# Altium footprint library IDC-16MR (DS1013-16R).PcbLib: 1 footprints
Each footprint in its own frame and in the unit in brackets; x right, y up, seen from the top. Pads: shape width x height; smd on the part's side, far side on the other; paste and mask are expansions set on the pad; w line width, h text height; cw(c..) or ccw(c..) is an arc to the next point about the centre after c.
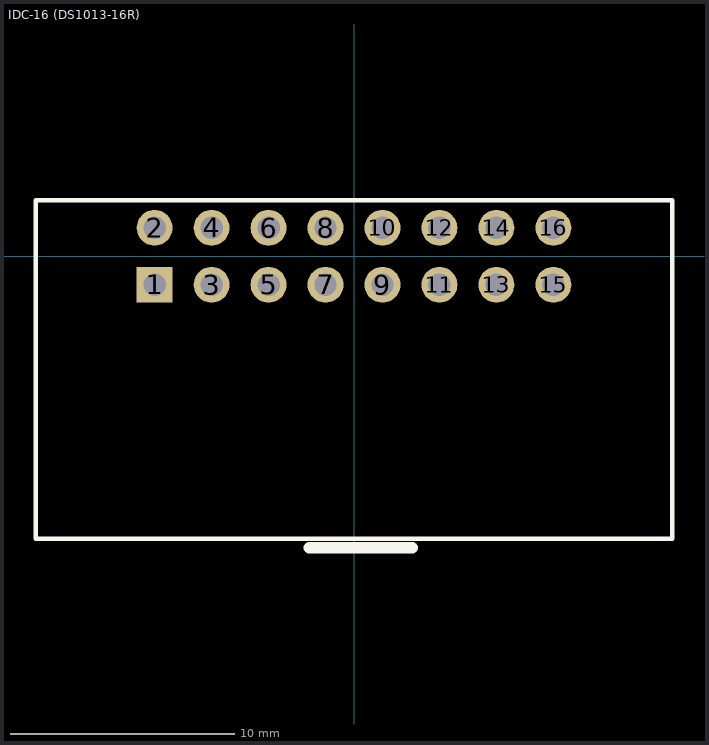
[diagram p0: the footprint, top view; thin cyan lines are the x and y axes]

## IDC-16 (DS1013-16R) [mm]
pads (16):
  rect 1.6x1.6 hole 1: 1(-8.89,-1.27)
  round 1.6 hole 1: 2(-8.89,1.27) 3(-6.35,-1.27) 4(-6.35,1.27) 5(-3.81,-1.27) 6(-3.81,1.27) 7(-1.27,-1.27) 8(-1.27,1.27) 9(1.27,-1.27) 10(1.27,1.27) 11(3.81,-1.27) 12(3.81,1.27) 13(6.35,-1.27) 14(6.35,1.27) 15(8.89,-1.27) 16(8.89,1.27)
Top Overlay:
  lines w0.2: -14.188,-12.6 14.188,-12.6 14.188,2.5 -14.188,2.5 -14.188,-12.6
  lines w0.5: -2,-13 2.6,-13
  text "." at -10.5,-2.6 h3
Mechanical 1:
  text ".Designator" at -10.89,-4.033 h1.52
3D body "User Library-DS1013-16R (IDC-16R CONNFLY).step": height 8.9, standoff -3, extent -14.06,-12.5 14.06,1.52